# EAGLE library part PINHEAD (library HOME_Automation)
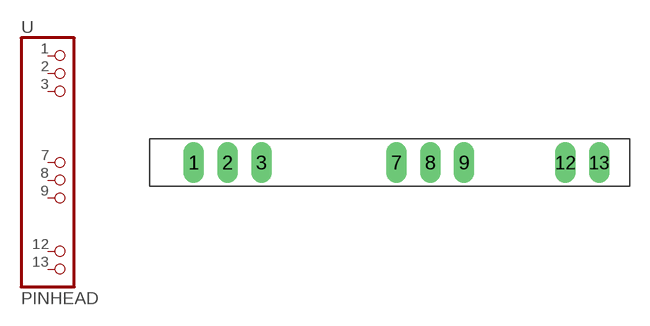
[diagram p11: symbol with the pads of BURGSTICS; footprint BURGSTICS]

Designator prefix -

## PINHEAD  [BURGSTICS]
1  1  pas
2  2  pas
3  3  pas
7  7  pas
8  8  pas
9  9  pas
12  12  pas
13  13  pas

## Footprint BURGSTICS (pad centres in mm)
drill 1.016 long: 1 -15.24,0; 2 -12.7,0; 3 -10.16,0; 7 0,0; 8 2.54,0; 9 5.08,0; 12 12.7,0; 13 15.24,0